# EAGLE library part MAX4907 (library Cerebro-library)
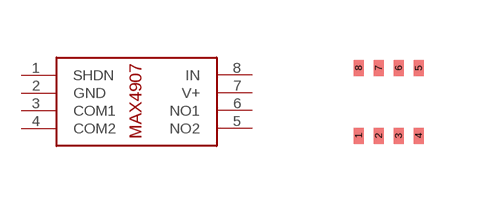
[diagram p11: symbol with the pads of UDFN-8; footprint UDFN-8]

Designator prefix -

## MAX4907  [UDFN-8]
1  SHDN
2  GND
3  COM1
4  COM2
5  NO2
6  NO1
7  V+
8  IN

## Footprint UDFN-8 (pad centres in mm)
smd 0.25 x 0.4: 1 -0.75,-0.9; 2 -0.25,-0.9; 3 0.25,-0.9; 4 0.75,-0.9; 5 0.75,0.8; 6 0.25,0.8; 7 -0.25,0.8; 8 -0.75,0.8